# EAGLE library part TPS73701_DRB_8 (library bone)
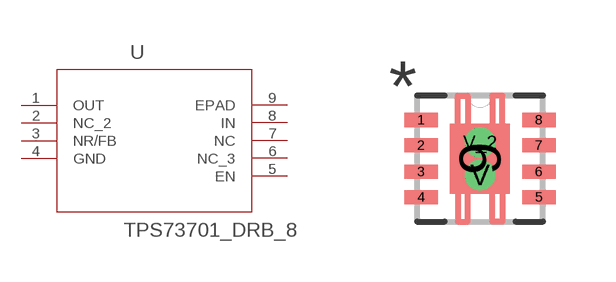
[diagram p2: symbol with the pads of DRB8_1P75X1P5; footprint DRB8_1P75X1P5]

Designator prefix U

## TPS73701_DRB_8 (DATASHEETURL: http://www.ti.com/lit/gpn/TPS73701; DESCRIPTION: Single Output LDO, 1A, Adj. (1.2 to 5.0V), Reverse Current Protection; FAMILY_NAME: SINGLE CHANNEL LDO; GENERIC_PART_NUMBER: TPS73701; INDUSTRY_STD_PKG_TYPE: SON; MANUFACTURER: Texas Instruments; MANUFACTURER_PART_NUMBER: tps73701_drb_8; PACKAGE_DESIGNATOR: DRB; PIN_COUNT: 8; VENDOR: Texas Instruments)  [DRB8_1P75X1P5]
1  OUT  out
2  NC_2  pas
3  NR/FB
4  GND  pwr
5  EN  pas
6  NC_3  pas
7  NC  pas
8  IN  in
9  EPAD  pas

## Footprint DRB8_1P75X1P5 (pad centres in mm)
smd 0.838 x 0.356: 1 -1.473,0.965; 2 -1.473,0.33; 3 -1.473,-0.33; 4 -1.473,-0.965; 5 1.473,-0.965; 6 1.473,-0.33; 7 1.473,0.33; 8 1.473,0.965
smd 1.499 x 1.753: 9 0,0
drill 0.254: V 0,-0.406; V_2 0,0.406